# EAGLE library part TC4427EOA (library TC4427EOA)
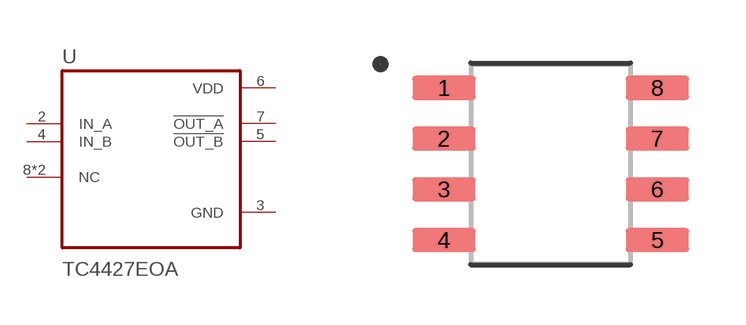
[diagram p0: symbol with the pads of SOIC127P599X175-8N; footprint SOIC127P599X175-8N]

Designator prefix U

## TC4427EOA (Availability: Unavailable; Description: Low-Side Gate Driver IC Non-Inverting 8-SOIC; MF: Microchip; MP: TC4427EOA; Package: SOIC-8 Microchip; Price: None)  [SOIC127P599X175-8N]
1  NC
2  IN_A  in
3  GND  pwr
4  IN_B  in
5  !OUT_B  out
6  VDD  pwr
7  !OUT_A  out
8  NC

## Footprint SOIC127P599X175-8N (pad centres in mm)
smd 1.58 x 0.6: 1 -2.67,1.905; 2 -2.67,0.635; 3 -2.67,-0.635; 4 -2.67,-1.905; 5 2.67,-1.905; 6 2.67,-0.635; 7 2.67,0.635; 8 2.67,1.905